# Altium schematic symbol library LED.SchLib: 8 symbols
Pins are listed as number, name and electrical type; pins without a type are passive.

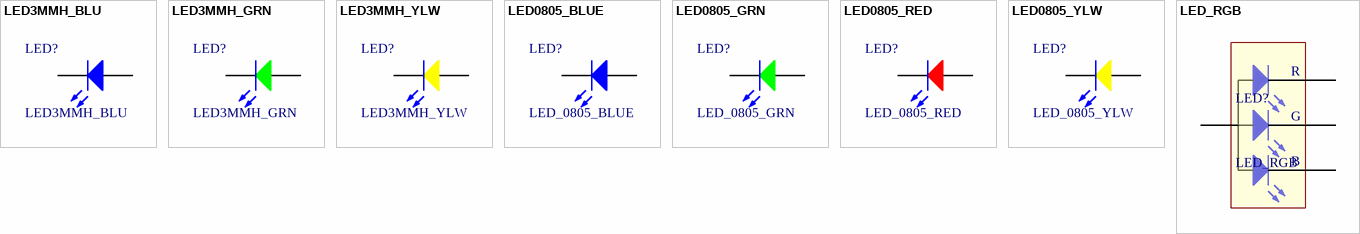
[diagram p0: symbols LED3MMH_BLU to LED_RGB]

## LED3MMH_BLU
designator LED?
LED Housing Dia = 3mm BLUE, 450mcd; MFG: Ligitek; MFG P/N: LA16B/DBK-2-PF; Anunda_Code: D0903; Price: 1.65; Supplier: ES; Value: LED3MMH_BLU
simulation model LED3 (Diode)
footprint LED-BLU (Typical INFRARED GaAs LED; 2 Leads)
pins: 1 K, 2 A

## LED3MMH_GRN
designator LED?
LED Housing Dia = 3mm GREEN, 220mcd; MFG: Ligitek; MFG P/N: LA16B/VY-2-PF; Anunda_Code: D0904; Price: 1.65; Supplier: ES; Value: LED3MMH_GRN
simulation model LED3 (Diode)
footprint LED-GRN (Typical INFRARED GaAs LED; 2 Leads)
pins: 1 K, 2 A

## LED3MMH_YLW
designator LED?
LED Housing Dia = 3mm YELLOW, 220mcd; MFG: Ligitek; MFG P/N: LA16B/VY-2-PF; Anunda_Code: D0904; Price: 1.65; Supplier: ES; Value: LED3MMH_YLW
simulation model LED3 (Diode)
footprint LED-YLW (Typical INFRARED GaAs LED; 2 Leads)
pins: 1 K, 2 A

## LED0805_BLUE
designator LED?, comment LED_0805_BLUE
LED TO-2013BC-BF SMD Blue Water Clear 146 MCD; MFG: Oasistek; Anunda_Code: M2091; MFG P/N: TO-2013BC-BF; Price: 2.26; Supplier: ES; Value: LED_0805_BLUE
simulation model LED3 (Diode)
footprint LED-0805_BLU (Chip LED0805 ; BLUE)
footprint 0805_LED_S1 - BLU
pins: 1 K, 2 A

## LED0805_GRN
designator LED?, comment LED_0805_GRN
LED TO-2013BC-MGE SMD Green water clear 146 MCD; MFG: Oasistek; Anunda_Code: M1915; MFG P/N: TO-2013BC-MGE; Price: 1.65; Supplier: ES; Value: LED_0805_GRN
simulation model LED3 (Diode)
footprint LED-0805_GRN (Chip LED0805 ; GREEN)
footprint 0805_LED_S1 - GRN
pins: 1 K, 2 A

## LED0805_RED
designator LED?, comment LED_0805_RED
LED; MFG: Oasistek; MFG P/N: TO-2013BC-MRE; Price: 2.26; Supplier: ES; Value: LED_0805_RED
simulation model LED3 (Diode)
footprint LED-0805_RED (Chip LED0805 ; RED)
footprint 0805_LED_S1 - RED
pins: 1 K, 2 A

## LED0805_YLW
designator LED?, comment LED_0805_YLW
LED TO-2013BC-MYE SMD Yellow water clear 146 MCD; MFG: Oasistek; Anunda_Code: M1916; MFG P/N: TO-2013BC-MYE; Price: 1.65; Supplier: ES; Value: LED_0805_YLW
simulation model LED3 (Diode)
footprint LED-0805_YLW (Chip LED0805 ; YELLOW)
footprint 0805_LED_S1 - YLW
pins: 1 K, 2 A

## LED_RGB
designator LED?
LED RGB COMMON ANODE; MFG: LITE-ON; MFG P/N: LTST-C190KGKT; Price: 1.65; Supplier: ES; Value: LED_RGB
simulation model LED3 (Diode)
footprint LED_RGB_4p
pins: 1 A, 2 R, 3 G, 4 B